# Altium schematic symbol library Digital ICs.SchLib: 3 symbols
Pins are listed as number, name and electrical type; pins without a type are passive.

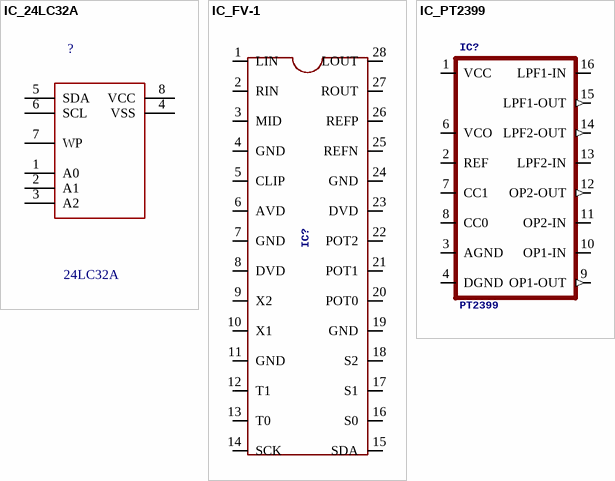
[diagram p0: symbols IC_24LC32A to IC_PT2399]

## IC_24LC32A
designator ?, comment 24LC32A
32Kbit Serial IC I2C Serial EEPROM; Package: DIP-8; Price: 0.5
footprint DIL8
pins: 1 A0, 2 A1, 3 A2, 4 VSS, 5 SDA, 6 SCL, 7 WP, 8 VCC

## IC_FV-1
designator IC?, comment FV-1  (value not drawn)
Spinsemi FV-1; Package: SOIC-28; Price: 8
footprint SOIC28
pins: 1 LIN, 2 RIN, 3 MID, 4 GND, 5 CLIP, 6 AVD, 7 GND, 8 DVD, 9 X2, 10 X1, 11 GND, 12 T1, 13 T0, 14 SCK, 15 SDA, 16 S0, 17 S1, 18 S2, 19 GND, 20 POT0, 21 POT1, 22 POT2, 23 DVD, 24 GND, 25 REFN, 26 REFP, 27 ROUT, 28 LOUT

## IC_PT2399
designator IC?, comment PT2399
footprint DIL16
pins: 1 VCC (power), 2 REF, 3 AGND (power), 4 DGND (power), 6 VCO, 7 CC1, 8 CC0, 9 OP1-OUT (out), 10 OP1-IN, 11 OP2-IN, 12 OP2-OUT (out), 13 LPF2-IN, 14 LPF2-OUT (out), 15 LPF1-OUT (out), 16 LPF1-IN